# EAGLE library part LQ-BTM (library prj_snowmaker)
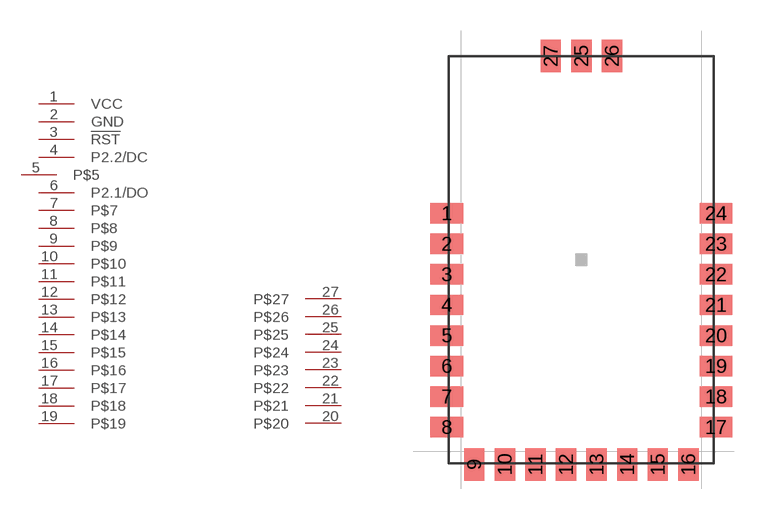
[diagram p9: symbol with the pads of LQ_BTM; footprint LQ_BTM]

Designator prefix U

## LQ-BTM  [LQ_BTM]
1  VCC
2  GND
3  !RST
4  P2.2/DC
5  P$5
6  P2.1/DO
7  P$7
8  P$8
9  P$9
10  P$10
11  P$11
12  P$12
13  P$13
14  P$14
15  P$15
16  P$16
17  P$17
18  P$18
19  P$19
20  P$20
21  P$21
22  P$22
23  P$23
24  P$24
25  P$25
26  P$26
27  P$27

## Footprint LQ_BTM (pad centres in mm)
smd 1.6 x 1: 1 -6.6,2.28; 2 -6.6,0.78; 3 -6.6,-0.72; 4 -6.6,-2.22; 5 -6.6,-3.72; 6 -6.6,-5.22; 7 -6.6,-6.72; 8 -6.6,-8.22; 17 6.6,-8.22; 18 6.6,-6.72; 19 6.6,-5.22; 20 6.6,-3.72; 21 6.6,-2.22; 22 6.6,-0.72; 23 6.6,0.78; 24 6.6,2.28
smd 1 x 1.6: 9 -5.25,-10.05; 10 -3.75,-10.05; 11 -2.25,-10.05; 12 -0.75,-10.05; 13 0.75,-10.05; 14 2.25,-10.05; 15 3.75,-10.05; 16 5.25,-10.05; 25 0,10; 26 1.5,10; 27 -1.5,10